# Altium footprint library Connectors.PcbLib: 24 footprints (part 2 of 2)
Each footprint in its own frame and in the unit in brackets; x right, y up, seen from the top. Pads: shape width x height; smd on the part's side, far side on the other; paste and mask are expansions set on the pad; w line width, h text height; cw(c..) or ccw(c..) is an arc to the next point about the centre after c.
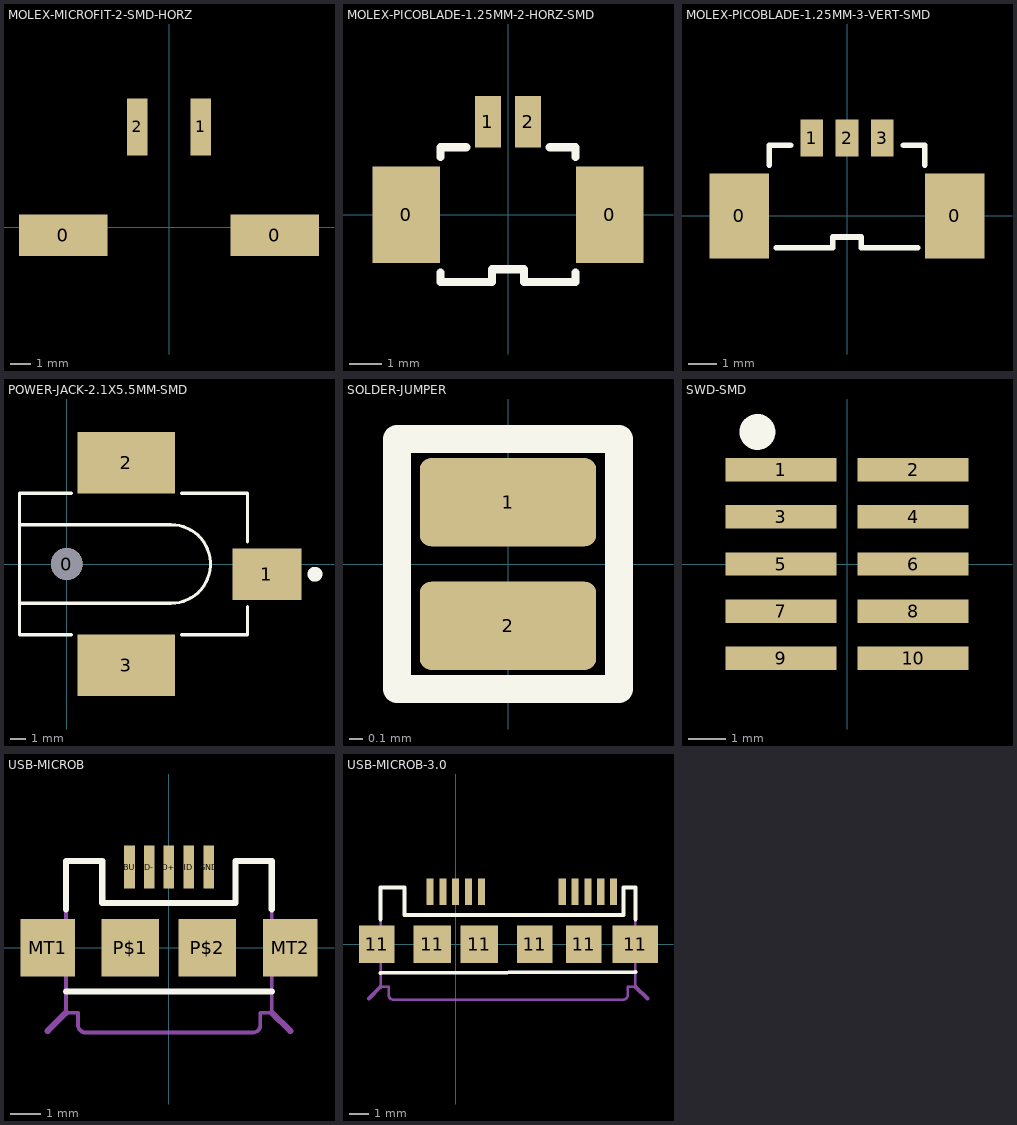
[diagram p1: the footprints below, top view; thin cyan lines are the x and y axes]

## MOLEX-MICROFIT-2-SMD-HORZ [mm] "Micro-Fit 3.0™ Right Angle Header, 3.00mm Pitch, Single Row, 2 Circuits, with Solder Tab, Tin, Glow Wire Capable, Black"
pads (4):
  rect 4.25x2 smd: 0(-5.08,-0.381) 0(5.08,-0.381)
  rect 1x2.75 smd: 1(1.524,4.826) 2(-1.524,4.826)
3D body "436500212.stp": height 5.64, standoff -0.04, extent -6.792,-4.989 6.858,5.751

## MOLEX-PICOBLADE-1.25MM-2-HORZ-SMD [mm]
pads (4):
  rect 2.1x3 smd: 0(-3.175,0) 0(3.175,0)
  rect 0.8x1.6 smd: 1(-0.625,2.9) 2(0.625,2.9)
Top Overlay:
  lines w0.254: -2.1,-1.8 -2.1,-2.1 -1,-2.1 -0.5,-2.1 -0.5,-1.7 0.5,-1.7 0.5,-2.1 1,-2.1 2.1,-2.1 2.1,-1.8 ; -2.1,1.8 -2.1,2.1 -1.3,2.1 ; 1.3,2.1 2.1,2.1 2.1,1.8
3D body "532610271.stp": height 3.4, standoff 0, extent -3.825,-2.075 3.825,3.125

## MOLEX-PICOBLADE-1.25MM-3-VERT-SMD [mm]
pads (5):
  rect 2.1x3 smd: 0(-3.8,0) 0(3.8,0)
  rect 0.8x1.3 smd: 1(-1.25,2.75) 2(0,2.75) 3(1.25,2.75)
Top Overlay:
  lines w0.2: -2.75,1.8 -2.75,2.5 ; 2.75,1.8 2.75,2.5
  lines w0.203: -2.75,2.5 -2,2.5 ; -2.5,-1.125 -0.5,-1.125 -0.5,-0.75 0.5,-0.75 0.5,-1.125 2.5,-1.125 ; 2,2.5 2.75,2.5
3D body "533980371.stp": height 4.77, standoff 0.03, extent -4.45,-1.1 4.45,3.1

## POWER-JACK-2.1X5.5MM-SMD [mm]
pads (4):
  round 2.032 hole 2.032: 0(0,0)
  rect 4.4x3.3 smd: 1(12.75,-0.65)
  rect 6.2x3.9 smd: 2(3.8,6.45) 3(3.8,-6.45)
Top Overlay:
  circle w0.5: c15.8,-0.65 r0.224
  lines w0.2: -3,-2.5 6.65,-2.5 ccw(c6.65,0) 6.65,2.5 -3,2.5 ; 0.3,-4.5 -3,-4.5 -3,4.5 0.3,4.5 ; 7.3,-4.5 11.5,-4.5 11.5,-2.7 ; 7.3,4.5 11.5,4.5 11.5,1.4
3D body "CUI_INC_PJ-036AH-SMT-TR.step": height 11, standoff -1.6, extent -3,-7.6 14.1,7.6

## SOLDER-JUMPER [mm]
pads (2):
  rrect25% 1.27x0.635 smd mask+0: 1(0,0.445) 2(0,-0.445)
Top Overlay:
  lines w0.203: -0.8,-0.9 -0.8,0.9 0.8,0.9 0.8,-0.9 -0.8,-0.9

## SWD-SMD [mm]
pads (10):
  rect 3x0.625 smd: 1(-1.778,2.54) 2(1.778,2.54) 3(-1.778,1.27) 4(1.778,1.27) 5(-1.778,0) 6(1.778,0) 7(-1.778,-1.27) 8(1.778,-1.27) 9(-1.778,-2.54) 10(1.778,-2.54)
Top Overlay:
  circle w0.762: c-2.413,3.556 r0.1
3D body "FTSH-105-01-F-DV.stp": height 5.96, standoff -0.01, extent -2.921,-3.175 2.921,3.175

## USB-MICROB [mil]
pads (9):
  rect 14x56 smd: D+(0,105) D-(-25.59,105) GND(52,105) ID(26,105) VBUS(-51.18,105)
  rect 71x75 smd: MT1(-157.48,0) MT2(158,0)
  rect 75x75 smd: P$1(-50,0) P$2(50,0)
Top Overlay:
  lines w8: -133.86,-57.09 134,-57.09 ; -133.86,50 -133.86,113 -86.61,113 -86.61,58 87,58 87,113 134,113 134,50
Mechanical 16:
  lines w5: -133.86,-57.09 134,-57.09 ; -133.86,-57.09 -133.86,113 -86.61,113 -86.61,58 87,58 87,113 134,113 134,-57.09 ; -133.86,-57.09 -133.86,-84.65 -118.11,-84.65 -118.11,-100.39 ccw(c-108.76,-100.98) -110.24,-110.24 109,-110.24 ccw(c109.67,-100.8) 119,-102.36 119,-84.65 134,-84.65 134,-57.09
  lines w8: -157.48,-108.27 -133.86,-84.65 ; 134,-84.65 158,-108.27
3D body "micro USB.STEP": height 112.35, standoff -2.75, extent -156.96,-98.43 156.96,115.19

## USB-MICROB-3.0 [mm]
pads (16):
  rect 0.36x1.35 smd: 1(-1.3,2.667) 2(-0.65,2.667) 3(0,2.667) 4(0.65,2.667) 5(1.3,2.667) 6(5.4,2.667) 7(6.05,2.667) 8(6.7,2.667) 9(7.35,2.667) 10(8,2.667)
  rect 1.8x1.9 smd: 11(-4,0) 11(4,0) 11(6.5,0)
  rect 1.9x1.9 smd: 11(-1.2,0) 11(1.2,0)
  rect 2.3x1.9 smd: 11(9.1,0)
Top Overlay:
  lines w0.203: -3.8,-1.45 9.1,-1.4 ; -3.8,1.27 -3.8,2.87 -2.6,2.87 -2.6,1.473 8.5,1.473 8.5,2.87 9.104,2.87 9.104,1.27
Mechanical 16:
  lines w0.127: 1.81,1.473 -2.6,1.473 -2.6,2.87 -3.8,2.87 -3.8,-1.45 ; 3.004,-1.45 -3.8,-1.45 ; 8.469,-2.8 ccw(c8.486,-2.56) 8.723,-2.6 8.723,-2.15 9.104,-2.15 9.104,-1.45 9.104,2.87 8.5,2.87 8.5,1.473 ; 8.5,-2.8 -3.2,-2.8 cw(c-3.162,-2.565) -3.4,-2.55 -3.4,-2.15 -3.8,-2.15 -3.8,-1.45
  lines w0.203: -4.4,-2.75 -3.8,-2.15 ; 9.104,-2.15 9.713,-2.75
3D body "uj3-miabh-1-smt.stp": height 2.75, standoff -0.27, extent -4.425,-2.809 9.725,2.9